# EAGLE library part LM2623 (library lightsuits)
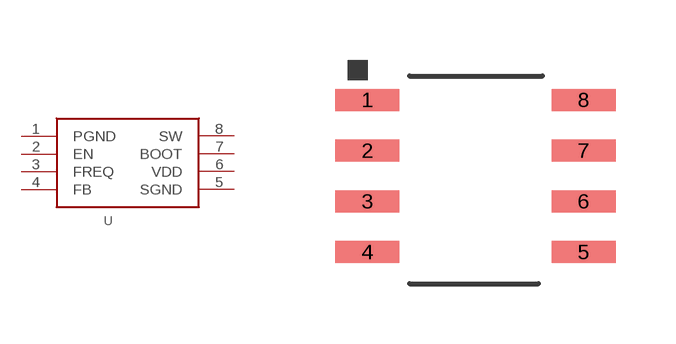
[diagram p9: symbol with the pads of 8-SOIC; footprint 8-SOIC]

Designator prefix -

## LM2623  [8-SOIC]
1  PGND
2  EN
3  FREQ
4  FB
5  SGND
6  VDD
7  BOOT
8  SW

## Footprint 8-SOIC (pad centres in mm)
smd 1.6 x 0.55: 1 0,0; 2 0,-1.27; 3 0,-2.54; 4 0,-3.81; 5 5.4,-3.81; 6 5.4,-2.54; 7 5.4,-1.27; 8 5.4,0